# EAGLE library part OLIMEX_CONNECTORS_HDMI-MC34931 (library A20-OLinuXino-Lime2_Rev_C)
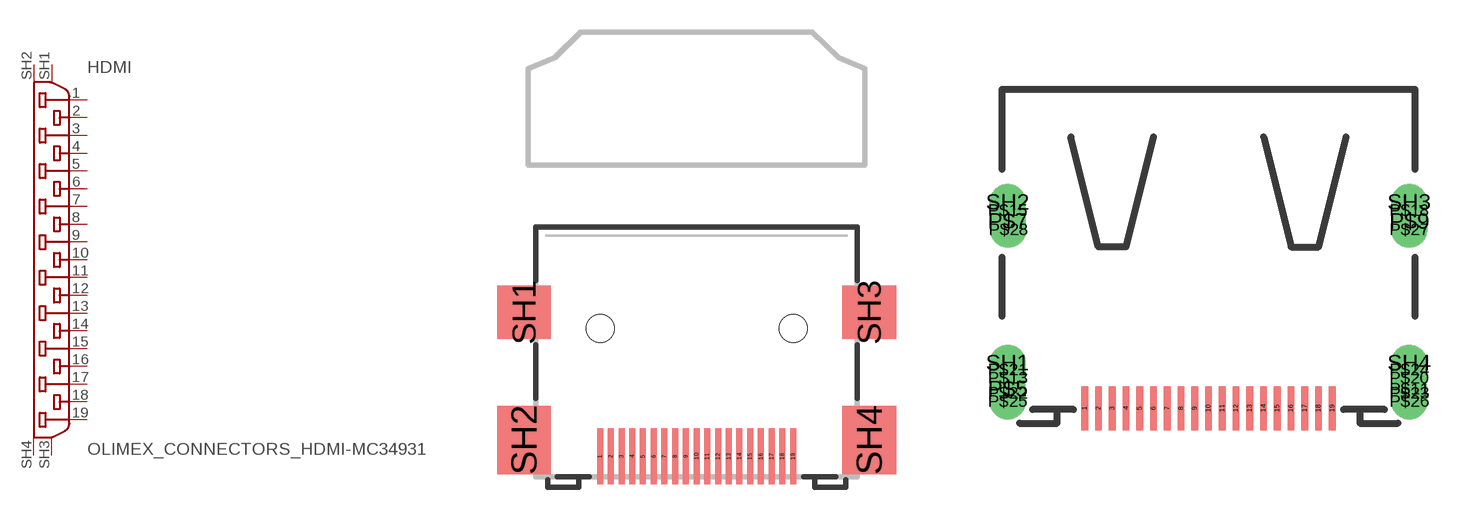
[diagram p0: symbol with the pads of OLIMEX_CONNECTORS_HDMI-MC34931; footprints OLIMEX_CONNECTORS_HDMI-MC34931, OLIMEX_CONNECTORS_HDMI-SWM-19]

Designator prefix HDMI

## OLIMEX_CONNECTORS_HDMI-MC349311428259  [OLIMEX_CONNECTORS_HDMI-MC34931]
1  1
2  2
3  3
4  4
5  5
6  6
7  7
8  8
9  9
10  10
11  11
12  12
13  13
14  14
15  15
16  16
17  17
18  18
19  19
SH1  20  in
SH2  21  in
SH3  22  in
SH4  23  in

## OLIMEX_CONNECTORS_HDMI-MC34931HDMI-SWM-19  [OLIMEX_CONNECTORS_HDMI-SWM-19]
Pads as for OLIMEX_CONNECTORS_HDMI-MC34931

## Footprint OLIMEX_CONNECTORS_HDMI-MC34931 (pad centres in mm)
HDMI Receptacle SMT type without flange Translated over the X-axis -230 mils and rotated counterclockwise 90 by Penko to ba as is in the real tray.
smd 0.28 x 2.6: 1 -4.5,-4.542; 2 -4,-4.542; 3 -3.5,-4.542; 4 -3,-4.542; 5 -2.5,-4.542; 6 -2,-4.542; 7 -1.5,-4.542; 8 -1,-4.542; 9 -0.5,-4.542; 10 0,-4.542; 11 0.5,-4.542; 12 1,-4.542; 13 1.5,-4.542; 14 2,-4.542; 15 2.5,-4.542; 16 3,-4.542; 17 3.5,-4.542; 18 4,-4.542; 19 4.5,-4.542
smd 2.5 x 2.5: SH1 -8.05,2.178; SH3 8.05,2.178
smd 2.5 x 3.2: SH2 -8.05,-3.782; SH4 8.05,-3.782
hole 1.3 at 4.5,1.418
hole 1.3 at -4.5,1.418

## Footprint OLIMEX_CONNECTORS_HDMI-SWM-19 (pad centres in mm)
Padovete ot 1.6x0.28 stavat na 1.6x0.25 Drilovete ot 0.9mm stavat na 0.8mm Malkiq krepejen slot v gorniq si krai e drapnat s 0.20mm v dolniq si s 0.05mm Kasiq slot e 1.8mm a dalgiq e 2.2mm Aktualen konektor za hdmi Translated over the X-axis -250 mils and rotated counterclockwise 90 by Penko to ba as is in the real tray. -MNOGO VAJNOOOoooO!!!
smd 0.25 x 1.6: 1 -4.5,-5.55; 2 -4,-5.55; 3 -3.5,-5.55; 4 -3,-5.55; 5 -2.5,-5.55; 6 -2,-5.55; 7 -1.5,-5.55; 8 -1,-5.55; 9 -0.5,-5.55; 10 0,-5.55; 11 0.5,-5.55; 12 1,-5.55; 13 1.5,-5.55; 14 2,-5.55; 15 2.5,-5.55; 16 3,-5.55; 17 3.5,-5.55; 18 4,-5.55; 19 4.5,-5.55
drill 0.8: P$5 -7.3,-4.85; P$7 -7.3,1.25; P$9 7.3,1.25; P$11 7.3,-4.85; P$13 -7.3,-4.45; P$15 -7.3,1.65; P$18 7.3,1.65; P$20 7.3,-4.45; P$21 -7.3,-4.15; P$22 -7.3,-5; P$23 7.3,-5; P$24 7.3,-4.15; P$25 -7.3,-5.3; P$26 7.3,-5.3; P$27 7.3,0.95; P$28 -7.275,0.95; SH1 -7.3,-3.9; SH2 -7.3,1.95; SH3 7.3,1.95; SH4 7.3,-3.9